# Altium integrated library Microchip Power Mgt Line Regulator.IntLib: 1066 symbols (part 8 of 26)
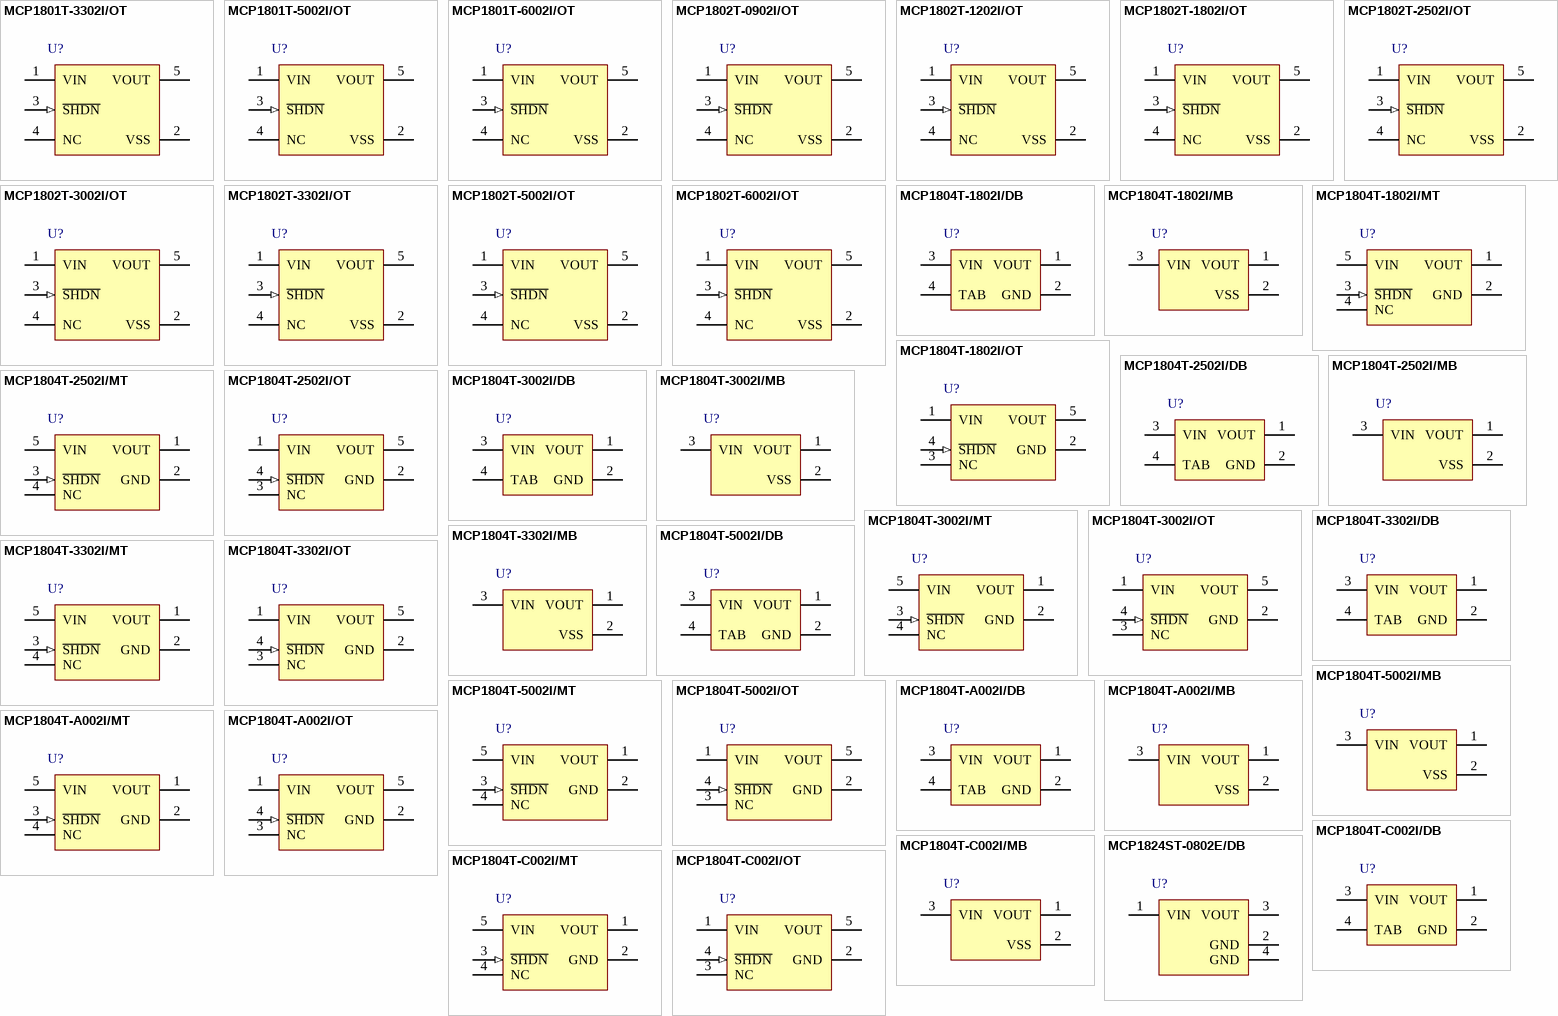
[diagram p33: symbols MCP1801T-3302I/OT to MCP1824ST-0802E/DB]

## MCP1804T-1802I/OT
designator U?
150 mA, 28V LDO Regulator With Shutdown, 5-Pin SOT-23, Industrial Temperature, Tape and Reel; Published: 2-Dec-2009; DatasheetVersion: revB, Nov-2009; PackageVersion: revBB, Aug-2009; PackageReference: SOT-23-OT5; Publisher: Altium Limited; PackageDescription: 5-Lead Plastic Small Outline Transistor (OT) [SOT-23]; Supplier 1: Digi-Key; Supplier Part Number 1: MCP1804T-1802I/OTTR-ND; Supplier 2: Digi-Key; Supplier Part Number 2: MCP1804T-1802I/OTCT-ND; Supplier 3: Digi-Key; Supplier Part Number 3: MCP1804T-1802I/OTDKR-ND; Supplier 4: Farnell; Supplier Part Number 4: 1825003; Supplier 5: Farnell; Supplier Part Number 5: 1783661; Code_IPC: SOT23-5; ComponentLink1Description: Datasheet; ComponentLink1URL: http://ww1.microchip.com/downloads/en/DeviceDoc/22200b.pdf; ComponentLink2Description: Packaging Specification; ComponentLink2URL: http://www.microchip.com/stellent/groups/techpub_sg/documents/packagingspec/en012702.pdf; ComponentLink3Description: Microchip.com Home; ComponentLink3URL: http://www.microchip.com/
footprint SOT-23-OT5_N (SOT23, 5-Leads, Body 2.9x1.6mm, Pitch 0.95mm, Lead Span 2.7mm, IPC Medium Density)
footprint SOT-23-OT5_L (SOT23, 5-Leads, Body 2.9x1.6mm, Pitch 0.95mm, Lead Span 2.7mm, IPC High Density)
footprint SOT-23-OT5_M (SOT23, 5-Leads, Body 2.9x1.6mm, Pitch 0.95mm, Lead Span 2.7mm, IPC Low Density)
pins: 1 VIN (power), 2 GND (power), 3 NC, 4 ~{SHDN} (in), 5 VOUT (power)

## MCP1804T-2502I/DB
designator U?
150 mA, 28V LDO Regulator With Shutdown, 3-Pin SOT-223, Industrial Temperature, Tape and Reel; Published: 2-Dec-2009; DatasheetVersion: revB, Nov-2009; PackageVersion: revBB, Aug-2009; PackageReference: SOT-223-DB3; Publisher: Altium Limited; PackageDescription: 3-Lead Plastic Small Outline Transistor (DB) [SOT-223]; Supplier 1: Digi-Key; Supplier Part Number 1: MCP1804T-2502I/DBTR-ND; Supplier 2: Digi-Key; Supplier Part Number 2: MCP1804T-2502I/DBCT-ND; Supplier 3: Digi-Key; Supplier Part Number 3: MCP1804T-2502I/DBDKR-ND; ComponentLink1Description: Datasheet; ComponentLink1URL: http://ww1.microchip.com/downloads/en/DeviceDoc/22200b.pdf; ComponentLink2Description: Packaging Specification; ComponentLink2URL: http://www.microchip.com/stellent/groups/techpub_sg/documents/packagingspec/en012702.pdf; ComponentLink3Description: Microchip.com Home; ComponentLink3URL: http://www.microchip.com/
footprint SOT-223-DB3_N (SOT223, 4-Leads, Body 6.5x3.5mm, Pitch 2.3mm, Lead Span 7mm, IPC Medium Density)
footprint SOT-223-DB3_L (SOT223, 4-Leads, Body 6.5x3.5mm, Pitch 2.3mm, Lead Span 7mm, IPC High Density)
footprint SOT-223-DB3_M (SOT223, 4-Leads, Body 6.5x3.5mm, Pitch 2.3mm, Lead Span 7mm, IPC Low Density)
pins: 1 VOUT (power), 2 GND (power), 3 VIN (power), 4 TAB (power)

## MCP1804T-2502I/MB
designator U?
150 mA, 28V LDO Regulator With Shutdown, 3-Pin SOT-89, Industrial Temperature, Tape and Reel; Published: 2-Dec-2009; DatasheetVersion: revB, Nov-2009; PackageVersion: revBB, Aug-2009; PackageReference: SOT-89-MB3; Publisher: Altium Limited; PackageDescription: 3-Lead Plastic Small Outline Transistor Header (MB) [SOT-89]; Supplier 1: Digi-Key; Supplier Part Number 1: MCP1804T-2502I/MBTR-ND; Supplier 2: Digi-Key; Supplier Part Number 2: MCP1804T-2502I/MBCT-ND; Supplier 3: Digi-Key; Supplier Part Number 3: MCP1804T-2502I/MBDKR-ND; Code_IPC: SOT89; ComponentLink1Description: Datasheet; ComponentLink1URL: http://ww1.microchip.com/downloads/en/DeviceDoc/22200b.pdf; ComponentLink2Description: Packaging Specification; ComponentLink2URL: http://www.microchip.com/stellent/groups/techpub_sg/documents/packagingspec/en012702.pdf; ComponentLink3Description: Microchip.com Home; ComponentLink3URL: http://www.microchip.com/
footprint SOT-89-MB3_N (SOT89, 3-Leads, Body 4.5x2.4 mm, Pitch 1.5mm, Lead Span 4.1mm, IPC Medium Density)
footprint SOT-89-MB3_L (SOT89, 3-Leads, Body 4.5x2.4 mm, Pitch 1.5mm, Lead Span 4.1mm, IPC High Density)
footprint SOT-89-MB3_M (SOT89, 3-Leads, Body 4.5x2.4 mm, Pitch 1.5mm, Lead Span 4.1mm, IPC Low Density)
pins: 1 VOUT (power), 2 VSS (power), 3 VIN (power)

## MCP1804T-2502I/MT
designator U?
150 mA, 28V LDO Regulator With Shutdown, 5-Pin SOT-89, Industrial Temperature, Tape and Reel; Published: 2-Dec-2009; DatasheetVersion: revB, Nov-2009; PackageVersion: revBB, Aug-2009; PackageReference: SOT-89-MT5; Publisher: Altium Limited; PackageDescription: 5-Lead Plastic Small Outline Transistor Header (MT) [SOT-89]; Supplier 1: Digi-Key; Supplier Part Number 1: MCP1804T-2502I/MTTR-ND; Supplier 2: Digi-Key; Supplier Part Number 2: MCP1804T-2502I/MTCT-ND; Supplier 3: Digi-Key; Supplier Part Number 3: MCP1804T-2502I/MTDKR-ND; ComponentLink1Description: Datasheet; ComponentLink1URL: http://ww1.microchip.com/downloads/en/DeviceDoc/22200b.pdf; ComponentLink2Description: Packaging Specification; ComponentLink2URL: http://www.microchip.com/stellent/groups/techpub_sg/documents/packagingspec/en012702.pdf; ComponentLink3Description: Microchip.com Home; ComponentLink3URL: http://www.microchip.com/
footprint SOT-89-MT5_N (SOT89, 5-Leads, Body 4.5x2.4 mm, Pitch 1.5mm, Lead Span 4.2mm, IPC Medium Density)
footprint SOT-89-MT5_L (SOT89, 5-Leads, Body 4.5x2.4 mm, Pitch 1.5mm, Lead Span 4.2mm, IPC High Density)
footprint SOT-89-MT5_M (SOT89, 5-Leads, Body 4.5x2.4 mm, Pitch 1.5mm, Lead Span 4.2mm, IPC Low Density)
pins: 1 VOUT (power), 2 GND (power), 3 ~{SHDN} (in), 4 NC, 5 VIN (power)

## MCP1804T-2502I/OT
designator U?
150 mA, 28V LDO Regulator With Shutdown, 5-Pin SOT-23, Industrial Temperature, Tape and Reel; Published: 2-Dec-2009; DatasheetVersion: revB, Nov-2009; PackageVersion: revBB, Aug-2009; PackageReference: SOT-23-OT5; Publisher: Altium Limited; PackageDescription: 5-Lead Plastic Small Outline Transistor (OT) [SOT-23]; Supplier 1: Digi-Key; Supplier Part Number 1: MCP1804T-2502I/OTTR-ND; Supplier 2: Digi-Key; Supplier Part Number 2: MCP1804T-2502I/OTCT-ND; Supplier 3: Digi-Key; Supplier Part Number 3: MCP1804T-2502I/OTDKR-ND; Supplier 4: Farnell; Supplier Part Number 4: 1825004; Supplier 5: Farnell; Supplier Part Number 5: 1783662; Code_IPC: SOT23-5; ComponentLink1Description: Datasheet; ComponentLink1URL: http://ww1.microchip.com/downloads/en/DeviceDoc/22200b.pdf; ComponentLink2Description: Packaging Specification; ComponentLink2URL: http://www.microchip.com/stellent/groups/techpub_sg/documents/packagingspec/en012702.pdf; ComponentLink3Description: Microchip.com Home; ComponentLink3URL: http://www.microchip.com/
footprint SOT-23-OT5_N (SOT23, 5-Leads, Body 2.9x1.6mm, Pitch 0.95mm, Lead Span 2.7mm, IPC Medium Density)
footprint SOT-23-OT5_L (SOT23, 5-Leads, Body 2.9x1.6mm, Pitch 0.95mm, Lead Span 2.7mm, IPC High Density)
footprint SOT-23-OT5_M (SOT23, 5-Leads, Body 2.9x1.6mm, Pitch 0.95mm, Lead Span 2.7mm, IPC Low Density)
pins: 1 VIN (power), 2 GND (power), 3 NC, 4 ~{SHDN} (in), 5 VOUT (power)

## MCP1804T-3002I/DB
designator U?
150 mA, 28V LDO Regulator With Shutdown, 3-Pin SOT-223, Industrial Temperature, Tape and Reel; Published: 2-Dec-2009; DatasheetVersion: revB, Nov-2009; PackageVersion: revBB, Aug-2009; PackageReference: SOT-223-DB3; Publisher: Altium Limited; PackageDescription: 3-Lead Plastic Small Outline Transistor (DB) [SOT-223]; Supplier 1: Digi-Key; Supplier Part Number 1: MCP1804T-3002I/DBTR-ND; Supplier 2: Digi-Key; Supplier Part Number 2: MCP1804T-3002I/DBCT-ND; Supplier 3: Digi-Key; Supplier Part Number 3: MCP1804T-3002I/DBDKR-ND; ComponentLink1Description: Datasheet; ComponentLink1URL: http://ww1.microchip.com/downloads/en/DeviceDoc/22200b.pdf; ComponentLink2Description: Packaging Specification; ComponentLink2URL: http://www.microchip.com/stellent/groups/techpub_sg/documents/packagingspec/en012702.pdf; ComponentLink3Description: Microchip.com Home; ComponentLink3URL: http://www.microchip.com/
footprint SOT-223-DB3_N (SOT223, 4-Leads, Body 6.5x3.5mm, Pitch 2.3mm, Lead Span 7mm, IPC Medium Density)
footprint SOT-223-DB3_L (SOT223, 4-Leads, Body 6.5x3.5mm, Pitch 2.3mm, Lead Span 7mm, IPC High Density)
footprint SOT-223-DB3_M (SOT223, 4-Leads, Body 6.5x3.5mm, Pitch 2.3mm, Lead Span 7mm, IPC Low Density)
pins: 1 VOUT (power), 2 GND (power), 3 VIN (power), 4 TAB (power)

## MCP1804T-3002I/MB
designator U?
150 mA, 28V LDO Regulator With Shutdown, 3-Pin SOT-89, Industrial Temperature, Tape and Reel; Published: 2-Dec-2009; DatasheetVersion: revB, Nov-2009; PackageVersion: revBB, Aug-2009; PackageReference: SOT-89-MB3; Publisher: Altium Limited; PackageDescription: 3-Lead Plastic Small Outline Transistor Header (MB) [SOT-89]; Supplier 1: Digi-Key; Supplier Part Number 1: MCP1804T-3002I/MBTR-ND; Supplier 2: Digi-Key; Supplier Part Number 2: MCP1804T-3002I/MBCT-ND; Supplier 3: Digi-Key; Supplier Part Number 3: MCP1804T-3002I/MBDKR-ND; Code_IPC: SOT89; ComponentLink1Description: Datasheet; ComponentLink1URL: http://ww1.microchip.com/downloads/en/DeviceDoc/22200b.pdf; ComponentLink2Description: Packaging Specification; ComponentLink2URL: http://www.microchip.com/stellent/groups/techpub_sg/documents/packagingspec/en012702.pdf; ComponentLink3Description: Microchip.com Home; ComponentLink3URL: http://www.microchip.com/
footprint SOT-89-MB3_N (SOT89, 3-Leads, Body 4.5x2.4 mm, Pitch 1.5mm, Lead Span 4.1mm, IPC Medium Density)
footprint SOT-89-MB3_L (SOT89, 3-Leads, Body 4.5x2.4 mm, Pitch 1.5mm, Lead Span 4.1mm, IPC High Density)
footprint SOT-89-MB3_M (SOT89, 3-Leads, Body 4.5x2.4 mm, Pitch 1.5mm, Lead Span 4.1mm, IPC Low Density)
pins: 1 VOUT (power), 2 VSS (power), 3 VIN (power)

## MCP1804T-3002I/MT
designator U?
150 mA, 28V LDO Regulator With Shutdown, 5-Pin SOT-89, Industrial Temperature, Tape and Reel; Published: 2-Dec-2009; DatasheetVersion: revB, Nov-2009; PackageVersion: revBB, Aug-2009; PackageReference: SOT-89-MT5; Publisher: Altium Limited; PackageDescription: 5-Lead Plastic Small Outline Transistor Header (MT) [SOT-89]; Supplier 1: Digi-Key; Supplier Part Number 1: MCP1804T-3002I/MTTR-ND; Supplier 2: Digi-Key; Supplier Part Number 2: MCP1804T-3002I/MTCT-ND; Supplier 3: Digi-Key; Supplier Part Number 3: MCP1804T-3002I/MTDKR-ND; ComponentLink1Description: Datasheet; ComponentLink1URL: http://ww1.microchip.com/downloads/en/DeviceDoc/22200b.pdf; ComponentLink2Description: Packaging Specification; ComponentLink2URL: http://www.microchip.com/stellent/groups/techpub_sg/documents/packagingspec/en012702.pdf; ComponentLink3Description: Microchip.com Home; ComponentLink3URL: http://www.microchip.com/
footprint SOT-89-MT5_N (SOT89, 5-Leads, Body 4.5x2.4 mm, Pitch 1.5mm, Lead Span 4.2mm, IPC Medium Density)
footprint SOT-89-MT5_L (SOT89, 5-Leads, Body 4.5x2.4 mm, Pitch 1.5mm, Lead Span 4.2mm, IPC High Density)
footprint SOT-89-MT5_M (SOT89, 5-Leads, Body 4.5x2.4 mm, Pitch 1.5mm, Lead Span 4.2mm, IPC Low Density)
pins: 1 VOUT (power), 2 GND (power), 3 ~{SHDN} (in), 4 NC, 5 VIN (power)

## MCP1804T-3002I/OT
designator U?
150 mA, 28V LDO Regulator With Shutdown, 5-Pin SOT-23, Industrial Temperature, Tape and Reel; Published: 2-Dec-2009; DatasheetVersion: revB, Nov-2009; PackageVersion: revBB, Aug-2009; PackageReference: SOT-23-OT5; Publisher: Altium Limited; PackageDescription: 5-Lead Plastic Small Outline Transistor (OT) [SOT-23]; Supplier 1: Digi-Key; Supplier Part Number 1: MCP1804T-3002I/OTTR-ND; Supplier 2: Digi-Key; Supplier Part Number 2: MCP1804T-3002I/OTCT-ND; Supplier 3: Digi-Key; Supplier Part Number 3: MCP1804T-3002I/OTDKR-ND; Supplier 4: Farnell; Supplier Part Number 4: 1825005; Supplier 5: Farnell; Supplier Part Number 5: 1783663; Code_IPC: SOT23-5; ComponentLink1Description: Datasheet; ComponentLink1URL: http://ww1.microchip.com/downloads/en/DeviceDoc/22200b.pdf; ComponentLink2Description: Packaging Specification; ComponentLink2URL: http://www.microchip.com/stellent/groups/techpub_sg/documents/packagingspec/en012702.pdf; ComponentLink3Description: Microchip.com Home; ComponentLink3URL: http://www.microchip.com/
footprint SOT-23-OT5_N (SOT23, 5-Leads, Body 2.9x1.6mm, Pitch 0.95mm, Lead Span 2.7mm, IPC Medium Density)
footprint SOT-23-OT5_L (SOT23, 5-Leads, Body 2.9x1.6mm, Pitch 0.95mm, Lead Span 2.7mm, IPC High Density)
footprint SOT-23-OT5_M (SOT23, 5-Leads, Body 2.9x1.6mm, Pitch 0.95mm, Lead Span 2.7mm, IPC Low Density)
pins: 1 VIN (power), 2 GND (power), 3 NC, 4 ~{SHDN} (in), 5 VOUT (power)

## MCP1804T-3302I/DB
designator U?
150 mA, 28V LDO Regulator With Shutdown, 3-Pin SOT-223, Industrial Temperature, Tape and Reel; Published: 2-Dec-2009; DatasheetVersion: revB, Nov-2009; PackageVersion: revBB, Aug-2009; PackageReference: SOT-223-DB3; Publisher: Altium Limited; PackageDescription: 3-Lead Plastic Small Outline Transistor (DB) [SOT-223]; Supplier 1: Digi-Key; Supplier Part Number 1: MCP1804T-3302I/DBTR-ND; Supplier 2: Digi-Key; Supplier Part Number 2: MCP1804T-3302I/DBCT-ND; Supplier 3: Digi-Key; Supplier Part Number 3: MCP1804T-3302I/DBDKR-ND; ComponentLink1Description: Datasheet; ComponentLink1URL: http://ww1.microchip.com/downloads/en/DeviceDoc/22200b.pdf; ComponentLink2Description: Packaging Specification; ComponentLink2URL: http://www.microchip.com/stellent/groups/techpub_sg/documents/packagingspec/en012702.pdf; ComponentLink3Description: Microchip.com Home; ComponentLink3URL: http://www.microchip.com/
footprint SOT-223-DB3_N (SOT223, 4-Leads, Body 6.5x3.5mm, Pitch 2.3mm, Lead Span 7mm, IPC Medium Density)
footprint SOT-223-DB3_L (SOT223, 4-Leads, Body 6.5x3.5mm, Pitch 2.3mm, Lead Span 7mm, IPC High Density)
footprint SOT-223-DB3_M (SOT223, 4-Leads, Body 6.5x3.5mm, Pitch 2.3mm, Lead Span 7mm, IPC Low Density)
pins: 1 VOUT (power), 2 GND (power), 3 VIN (power), 4 TAB (power)

## MCP1804T-3302I/MB
designator U?
150 mA, 28V LDO Regulator With Shutdown, 3-Pin SOT-89, Industrial Temperature, Tape and Reel; Published: 2-Dec-2009; DatasheetVersion: revB, Nov-2009; PackageVersion: revBB, Aug-2009; PackageReference: SOT-89-MB3; Publisher: Altium Limited; PackageDescription: 3-Lead Plastic Small Outline Transistor Header (MB) [SOT-89]; Supplier 1: Digi-Key; Supplier Part Number 1: MCP1804T-3302I/MBTR-ND; Supplier 2: Digi-Key; Supplier Part Number 2: MCP1804T-3302I/MBCT-ND; Supplier 3: Digi-Key; Supplier Part Number 3: MCP1804T-3302I/MBDKR-ND; Code_IPC: SOT89; ComponentLink1Description: Datasheet; ComponentLink1URL: http://ww1.microchip.com/downloads/en/DeviceDoc/22200b.pdf; ComponentLink2Description: Packaging Specification; ComponentLink2URL: http://www.microchip.com/stellent/groups/techpub_sg/documents/packagingspec/en012702.pdf; ComponentLink3Description: Microchip.com Home; ComponentLink3URL: http://www.microchip.com/
footprint SOT-89-MB3_N (SOT89, 3-Leads, Body 4.5x2.4 mm, Pitch 1.5mm, Lead Span 4.1mm, IPC Medium Density)
footprint SOT-89-MB3_L (SOT89, 3-Leads, Body 4.5x2.4 mm, Pitch 1.5mm, Lead Span 4.1mm, IPC High Density)
footprint SOT-89-MB3_M (SOT89, 3-Leads, Body 4.5x2.4 mm, Pitch 1.5mm, Lead Span 4.1mm, IPC Low Density)
pins: 1 VOUT (power), 2 VSS (power), 3 VIN (power)

## MCP1804T-3302I/MT
designator U?
150 mA, 28V LDO Regulator With Shutdown, 5-Pin SOT-89, Industrial Temperature, Tape and Reel; Published: 2-Dec-2009; DatasheetVersion: revB, Nov-2009; PackageVersion: revBB, Aug-2009; PackageReference: SOT-89-MT5; Publisher: Altium Limited; PackageDescription: 5-Lead Plastic Small Outline Transistor Header (MT) [SOT-89]; Supplier 1: Digi-Key; Supplier Part Number 1: MCP1804T-3302I/MTTR-ND; Supplier 2: Digi-Key; Supplier Part Number 2: MCP1804T-3302I/MTCT-ND; Supplier 3: Digi-Key; Supplier Part Number 3: MCP1804T-3302I/MTDKR-ND; ComponentLink1Description: Datasheet; ComponentLink1URL: http://ww1.microchip.com/downloads/en/DeviceDoc/22200b.pdf; ComponentLink2Description: Packaging Specification; ComponentLink2URL: http://www.microchip.com/stellent/groups/techpub_sg/documents/packagingspec/en012702.pdf; ComponentLink3Description: Microchip.com Home; ComponentLink3URL: http://www.microchip.com/
footprint SOT-89-MT5_N (SOT89, 5-Leads, Body 4.5x2.4 mm, Pitch 1.5mm, Lead Span 4.2mm, IPC Medium Density)
footprint SOT-89-MT5_L (SOT89, 5-Leads, Body 4.5x2.4 mm, Pitch 1.5mm, Lead Span 4.2mm, IPC High Density)
footprint SOT-89-MT5_M (SOT89, 5-Leads, Body 4.5x2.4 mm, Pitch 1.5mm, Lead Span 4.2mm, IPC Low Density)
pins: 1 VOUT (power), 2 GND (power), 3 ~{SHDN} (in), 4 NC, 5 VIN (power)

## MCP1804T-3302I/OT
designator U?
150 mA, 28V LDO Regulator With Shutdown, 5-Pin SOT-23, Industrial Temperature, Tape and Reel; Published: 2-Dec-2009; DatasheetVersion: revB, Nov-2009; PackageVersion: revBB, Aug-2009; PackageReference: SOT-23-OT5; Publisher: Altium Limited; PackageDescription: 5-Lead Plastic Small Outline Transistor (OT) [SOT-23]; Supplier 1: Digi-Key; Supplier Part Number 1: MCP1804T-3302I/OTTR-ND; Supplier 2: Digi-Key; Supplier Part Number 2: MCP1804T-3302I/OTCT-ND; Supplier 3: Digi-Key; Supplier Part Number 3: MCP1804T-3302I/OTDKR-ND; Supplier 4: Farnell; Supplier Part Number 4: 1783664; Supplier 5: Farnell; Supplier Part Number 5: 1825006; Code_IPC: SOT23-5; ComponentLink1Description: Datasheet; ComponentLink1URL: http://ww1.microchip.com/downloads/en/DeviceDoc/22200b.pdf; ComponentLink2Description: Packaging Specification; ComponentLink2URL: http://www.microchip.com/stellent/groups/techpub_sg/documents/packagingspec/en012702.pdf; ComponentLink3Description: Microchip.com Home; ComponentLink3URL: http://www.microchip.com/
footprint SOT-23-OT5_N (SOT23, 5-Leads, Body 2.9x1.6mm, Pitch 0.95mm, Lead Span 2.7mm, IPC Medium Density)
footprint SOT-23-OT5_L (SOT23, 5-Leads, Body 2.9x1.6mm, Pitch 0.95mm, Lead Span 2.7mm, IPC High Density)
footprint SOT-23-OT5_M (SOT23, 5-Leads, Body 2.9x1.6mm, Pitch 0.95mm, Lead Span 2.7mm, IPC Low Density)
pins: 1 VIN (power), 2 GND (power), 3 NC, 4 ~{SHDN} (in), 5 VOUT (power)

## MCP1804T-5002I/DB
designator U?
150 mA, 28V LDO Regulator With Shutdown, 3-Pin SOT-223, Industrial Temperature, Tape and Reel; Published: 2-Dec-2009; DatasheetVersion: revB, Nov-2009; PackageVersion: revBB, Aug-2009; PackageReference: SOT-223-DB3; Publisher: Altium Limited; PackageDescription: 3-Lead Plastic Small Outline Transistor (DB) [SOT-223]; Supplier 1: Digi-Key; Supplier Part Number 1: MCP1804T-5002I/DBTR-ND; Supplier 2: Digi-Key; Supplier Part Number 2: MCP1804T-5002I/DBCT-ND; Supplier 3: Digi-Key; Supplier Part Number 3: MCP1804T-5002I/DBDKR-ND; ComponentLink1Description: Datasheet; ComponentLink1URL: http://ww1.microchip.com/downloads/en/DeviceDoc/22200b.pdf; ComponentLink2Description: Packaging Specification; ComponentLink2URL: http://www.microchip.com/stellent/groups/techpub_sg/documents/packagingspec/en012702.pdf; ComponentLink3Description: Microchip.com Home; ComponentLink3URL: http://www.microchip.com/
footprint SOT-223-DB3_N (SOT223, 4-Leads, Body 6.5x3.5mm, Pitch 2.3mm, Lead Span 7mm, IPC Medium Density)
footprint SOT-223-DB3_L (SOT223, 4-Leads, Body 6.5x3.5mm, Pitch 2.3mm, Lead Span 7mm, IPC High Density)
footprint SOT-223-DB3_M (SOT223, 4-Leads, Body 6.5x3.5mm, Pitch 2.3mm, Lead Span 7mm, IPC Low Density)
pins: 1 VOUT (power), 2 GND (power), 3 VIN (power), 4 TAB (power)

## MCP1804T-5002I/MB
designator U?
150 mA, 28V LDO Regulator With Shutdown, 3-Pin SOT-89, Industrial Temperature, Tape and Reel; Published: 2-Dec-2009; DatasheetVersion: revB, Nov-2009; PackageVersion: revBB, Aug-2009; PackageReference: SOT-89-MB3; Publisher: Altium Limited; PackageDescription: 3-Lead Plastic Small Outline Transistor Header (MB) [SOT-89]; Supplier 1: Digi-Key; Supplier Part Number 1: MCP1804T-5002I/MBTR-ND; Supplier 2: Digi-Key; Supplier Part Number 2: MCP1804T-5002I/MBCT-ND; Supplier 3: Digi-Key; Supplier Part Number 3: MCP1804T-5002I/MBDKR-ND; Code_IPC: SOT89; ComponentLink1Description: Datasheet; ComponentLink1URL: http://ww1.microchip.com/downloads/en/DeviceDoc/22200b.pdf; ComponentLink2Description: Packaging Specification; ComponentLink2URL: http://www.microchip.com/stellent/groups/techpub_sg/documents/packagingspec/en012702.pdf; ComponentLink3Description: Microchip.com Home; ComponentLink3URL: http://www.microchip.com/
footprint SOT-89-MB3_N (SOT89, 3-Leads, Body 4.5x2.4 mm, Pitch 1.5mm, Lead Span 4.1mm, IPC Medium Density)
footprint SOT-89-MB3_L (SOT89, 3-Leads, Body 4.5x2.4 mm, Pitch 1.5mm, Lead Span 4.1mm, IPC High Density)
footprint SOT-89-MB3_M (SOT89, 3-Leads, Body 4.5x2.4 mm, Pitch 1.5mm, Lead Span 4.1mm, IPC Low Density)
pins: 1 VOUT (power), 2 VSS (power), 3 VIN (power)

## MCP1804T-5002I/MT
designator U?
150 mA, 28V LDO Regulator With Shutdown, 5-Pin SOT-89, Industrial Temperature, Tape and Reel; Published: 2-Dec-2009; DatasheetVersion: revB, Nov-2009; PackageVersion: revBB, Aug-2009; PackageReference: SOT-89-MT5; Publisher: Altium Limited; PackageDescription: 5-Lead Plastic Small Outline Transistor Header (MT) [SOT-89]; Supplier 1: Digi-Key; Supplier Part Number 1: MCP1804T-5002I/MTTR-ND; Supplier 2: Digi-Key; Supplier Part Number 2: MCP1804T-5002I/MTCT-ND; Supplier 3: Digi-Key; Supplier Part Number 3: MCP1804T-5002I/MTDKR-ND; ComponentLink1Description: Datasheet; ComponentLink1URL: http://ww1.microchip.com/downloads/en/DeviceDoc/22200b.pdf; ComponentLink2Description: Packaging Specification; ComponentLink2URL: http://www.microchip.com/stellent/groups/techpub_sg/documents/packagingspec/en012702.pdf; ComponentLink3Description: Microchip.com Home; ComponentLink3URL: http://www.microchip.com/
footprint SOT-89-MT5_N (SOT89, 5-Leads, Body 4.5x2.4 mm, Pitch 1.5mm, Lead Span 4.2mm, IPC Medium Density)
footprint SOT-89-MT5_L (SOT89, 5-Leads, Body 4.5x2.4 mm, Pitch 1.5mm, Lead Span 4.2mm, IPC High Density)
footprint SOT-89-MT5_M (SOT89, 5-Leads, Body 4.5x2.4 mm, Pitch 1.5mm, Lead Span 4.2mm, IPC Low Density)
pins: 1 VOUT (power), 2 GND (power), 3 ~{SHDN} (in), 4 NC, 5 VIN (power)

## MCP1804T-5002I/OT
designator U?
150 mA, 28V LDO Regulator With Shutdown, 5-Pin SOT-23, Industrial Temperature, Tape and Reel; Published: 2-Dec-2009; DatasheetVersion: revB, Nov-2009; PackageVersion: revBB, Aug-2009; PackageReference: SOT-23-OT5; Publisher: Altium Limited; PackageDescription: 5-Lead Plastic Small Outline Transistor (OT) [SOT-23]; Supplier 1: Digi-Key; Supplier Part Number 1: MCP1804T-5002I/OTTR-ND; Supplier 2: Digi-Key; Supplier Part Number 2: MCP1804T-5002I/OTCT-ND; Supplier 3: Digi-Key; Supplier Part Number 3: MCP1804T-5002I/OTDKR-ND; Supplier 4: Farnell; Supplier Part Number 4: 1825007; Supplier 5: Farnell; Supplier Part Number 5: 1783665; Code_IPC: SOT23-5; ComponentLink1Description: Datasheet; ComponentLink1URL: http://ww1.microchip.com/downloads/en/DeviceDoc/22200b.pdf; ComponentLink2Description: Packaging Specification; ComponentLink2URL: http://www.microchip.com/stellent/groups/techpub_sg/documents/packagingspec/en012702.pdf; ComponentLink3Description: Microchip.com Home; ComponentLink3URL: http://www.microchip.com/
footprint SOT-23-OT5_N (SOT23, 5-Leads, Body 2.9x1.6mm, Pitch 0.95mm, Lead Span 2.7mm, IPC Medium Density)
footprint SOT-23-OT5_L (SOT23, 5-Leads, Body 2.9x1.6mm, Pitch 0.95mm, Lead Span 2.7mm, IPC High Density)
footprint SOT-23-OT5_M (SOT23, 5-Leads, Body 2.9x1.6mm, Pitch 0.95mm, Lead Span 2.7mm, IPC Low Density)
pins: 1 VIN (power), 2 GND (power), 3 NC, 4 ~{SHDN} (in), 5 VOUT (power)

## MCP1804T-A002I/DB
designator U?
150 mA, 28V LDO Regulator With Shutdown, 3-Pin SOT-223, Industrial Temperature, Tape and Reel; Published: 2-Dec-2009; DatasheetVersion: revB, Nov-2009; PackageVersion: revBB, Aug-2009; PackageReference: SOT-223-DB3; Publisher: Altium Limited; PackageDescription: 3-Lead Plastic Small Outline Transistor (DB) [SOT-223]; Supplier 1: Digi-Key; Supplier Part Number 1: MCP1804T-A002I/DBTR-ND; Supplier 2: Digi-Key; Supplier Part Number 2: MCP1804T-A002I/DBCT-ND; Supplier 3: Digi-Key; Supplier Part Number 3: MCP1804T-A002I/DBDKR-ND; ComponentLink1Description: Datasheet; ComponentLink1URL: http://ww1.microchip.com/downloads/en/DeviceDoc/22200b.pdf; ComponentLink2Description: Packaging Specification; ComponentLink2URL: http://www.microchip.com/stellent/groups/techpub_sg/documents/packagingspec/en012702.pdf; ComponentLink3Description: Microchip.com Home; ComponentLink3URL: http://www.microchip.com/
footprint SOT-223-DB3_N (SOT223, 4-Leads, Body 6.5x3.5mm, Pitch 2.3mm, Lead Span 7mm, IPC Medium Density)
footprint SOT-223-DB3_L (SOT223, 4-Leads, Body 6.5x3.5mm, Pitch 2.3mm, Lead Span 7mm, IPC High Density)
footprint SOT-223-DB3_M (SOT223, 4-Leads, Body 6.5x3.5mm, Pitch 2.3mm, Lead Span 7mm, IPC Low Density)
pins: 1 VOUT (power), 2 GND (power), 3 VIN (power), 4 TAB (power)

## MCP1804T-A002I/MB
designator U?
150 mA, 28V LDO Regulator With Shutdown, 3-Pin SOT-89, Industrial Temperature, Tape and Reel; Published: 2-Dec-2009; DatasheetVersion: revB, Nov-2009; PackageVersion: revBB, Aug-2009; PackageReference: SOT-89-MB3; Publisher: Altium Limited; PackageDescription: 3-Lead Plastic Small Outline Transistor Header (MB) [SOT-89]; Supplier 1: Digi-Key; Supplier Part Number 1: MCP1804T-A002I/MBTR-ND; Supplier 2: Digi-Key; Supplier Part Number 2: MCP1804T-A002I/MBCT-ND; Supplier 3: Digi-Key; Supplier Part Number 3: MCP1804T-A002I/MBDKR-ND; Code_IPC: SOT89; ComponentLink1Description: Datasheet; ComponentLink1URL: http://ww1.microchip.com/downloads/en/DeviceDoc/22200b.pdf; ComponentLink2Description: Packaging Specification; ComponentLink2URL: http://www.microchip.com/stellent/groups/techpub_sg/documents/packagingspec/en012702.pdf; ComponentLink3Description: Microchip.com Home; ComponentLink3URL: http://www.microchip.com/
footprint SOT-89-MB3_N (SOT89, 3-Leads, Body 4.5x2.4 mm, Pitch 1.5mm, Lead Span 4.1mm, IPC Medium Density)
footprint SOT-89-MB3_L (SOT89, 3-Leads, Body 4.5x2.4 mm, Pitch 1.5mm, Lead Span 4.1mm, IPC High Density)
footprint SOT-89-MB3_M (SOT89, 3-Leads, Body 4.5x2.4 mm, Pitch 1.5mm, Lead Span 4.1mm, IPC Low Density)
pins: 1 VOUT (power), 2 VSS (power), 3 VIN (power)

## MCP1804T-A002I/MT
designator U?
150 mA, 28V LDO Regulator With Shutdown, 5-Pin SOT-89, Industrial Temperature, Tape and Reel; Published: 2-Dec-2009; DatasheetVersion: revB, Nov-2009; PackageVersion: revBB, Aug-2009; PackageReference: SOT-89-MT5; Publisher: Altium Limited; PackageDescription: 5-Lead Plastic Small Outline Transistor Header (MT) [SOT-89]; Supplier 1: Digi-Key; Supplier Part Number 1: MCP1804T-A002I/MTTR-ND; Supplier 2: Digi-Key; Supplier Part Number 2: MCP1804T-A002I/MTCT-ND; Supplier 3: Digi-Key; Supplier Part Number 3: MCP1804T-A002I/MTDKR-ND; ComponentLink1Description: Datasheet; ComponentLink1URL: http://ww1.microchip.com/downloads/en/DeviceDoc/22200b.pdf; ComponentLink2Description: Packaging Specification; ComponentLink2URL: http://www.microchip.com/stellent/groups/techpub_sg/documents/packagingspec/en012702.pdf; ComponentLink3Description: Microchip.com Home; ComponentLink3URL: http://www.microchip.com/
footprint SOT-89-MT5_N (SOT89, 5-Leads, Body 4.5x2.4 mm, Pitch 1.5mm, Lead Span 4.2mm, IPC Medium Density)
footprint SOT-89-MT5_L (SOT89, 5-Leads, Body 4.5x2.4 mm, Pitch 1.5mm, Lead Span 4.2mm, IPC High Density)
footprint SOT-89-MT5_M (SOT89, 5-Leads, Body 4.5x2.4 mm, Pitch 1.5mm, Lead Span 4.2mm, IPC Low Density)
pins: 1 VOUT (power), 2 GND (power), 3 ~{SHDN} (in), 4 NC, 5 VIN (power)

## MCP1804T-A002I/OT
designator U?
150 mA, 28V LDO Regulator With Shutdown, 5-Pin SOT-23, Industrial Temperature, Tape and Reel; Published: 2-Dec-2009; DatasheetVersion: revB, Nov-2009; PackageVersion: revBB, Aug-2009; PackageReference: SOT-23-OT5; Publisher: Altium Limited; PackageDescription: 5-Lead Plastic Small Outline Transistor (OT) [SOT-23]; Supplier 1: Digi-Key; Supplier Part Number 1: MCP1804T-A002I/OTTR-ND; Supplier 2: Digi-Key; Supplier Part Number 2: MCP1804T-A002I/OTCT-ND; Supplier 3: Digi-Key; Supplier Part Number 3: MCP1804T-A002I/OTDKR-ND; Supplier 4: Farnell; Supplier Part Number 4: 1825009; Supplier 5: Farnell; Supplier Part Number 5: 1783657; Code_IPC: SOT23-5; ComponentLink1Description: Datasheet; ComponentLink1URL: http://ww1.microchip.com/downloads/en/DeviceDoc/22200b.pdf; ComponentLink2Description: Packaging Specification; ComponentLink2URL: http://www.microchip.com/stellent/groups/techpub_sg/documents/packagingspec/en012702.pdf; ComponentLink3Description: Microchip.com Home; ComponentLink3URL: http://www.microchip.com/
footprint SOT-23-OT5_N (SOT23, 5-Leads, Body 2.9x1.6mm, Pitch 0.95mm, Lead Span 2.7mm, IPC Medium Density)
footprint SOT-23-OT5_L (SOT23, 5-Leads, Body 2.9x1.6mm, Pitch 0.95mm, Lead Span 2.7mm, IPC High Density)
footprint SOT-23-OT5_M (SOT23, 5-Leads, Body 2.9x1.6mm, Pitch 0.95mm, Lead Span 2.7mm, IPC Low Density)
pins: 1 VIN (power), 2 GND (power), 3 NC, 4 ~{SHDN} (in), 5 VOUT (power)

## MCP1804T-C002I/DB
designator U?
150 mA, 28V LDO Regulator With Shutdown, 3-Pin SOT-223, Industrial Temperature, Tape and Reel; Published: 2-Dec-2009; DatasheetVersion: revB, Nov-2009; PackageVersion: revBB, Aug-2009; PackageReference: SOT-223-DB3; Publisher: Altium Limited; PackageDescription: 3-Lead Plastic Small Outline Transistor (DB) [SOT-223]; Supplier 1: Digi-Key; Supplier Part Number 1: MCP1804T-C002I/DBTR-ND; Supplier 2: Digi-Key; Supplier Part Number 2: MCP1804T-C002I/DBCT-ND; Supplier 3: Digi-Key; Supplier Part Number 3: MCP1804T-C002I/DBDKR-ND; ComponentLink1Description: Datasheet; ComponentLink1URL: http://ww1.microchip.com/downloads/en/DeviceDoc/22200b.pdf; ComponentLink2Description: Packaging Specification; ComponentLink2URL: http://www.microchip.com/stellent/groups/techpub_sg/documents/packagingspec/en012702.pdf; ComponentLink3Description: Microchip.com Home; ComponentLink3URL: http://www.microchip.com/
footprint SOT-223-DB3_N (SOT223, 4-Leads, Body 6.5x3.5mm, Pitch 2.3mm, Lead Span 7mm, IPC Medium Density)
footprint SOT-223-DB3_L (SOT223, 4-Leads, Body 6.5x3.5mm, Pitch 2.3mm, Lead Span 7mm, IPC High Density)
footprint SOT-223-DB3_M (SOT223, 4-Leads, Body 6.5x3.5mm, Pitch 2.3mm, Lead Span 7mm, IPC Low Density)
pins: 1 VOUT (power), 2 GND (power), 3 VIN (power), 4 TAB (power)

## MCP1804T-C002I/MB
designator U?
150 mA, 28V LDO Regulator With Shutdown, 3-Pin SOT-89, Industrial Temperature, Tape and Reel; Published: 2-Dec-2009; DatasheetVersion: revB, Nov-2009; PackageVersion: revBB, Aug-2009; PackageReference: SOT-89-MB3; Publisher: Altium Limited; PackageDescription: 3-Lead Plastic Small Outline Transistor Header (MB) [SOT-89]; Supplier 1: Digi-Key; Supplier Part Number 1: MCP1804T-C002I/MBTR-ND; Supplier 2: Digi-Key; Supplier Part Number 2: MCP1804T-C002I/MBCT-ND; Supplier 3: Digi-Key; Supplier Part Number 3: MCP1804T-C002I/MBDKR-ND; Code_IPC: SOT89; ComponentLink1Description: Datasheet; ComponentLink1URL: http://ww1.microchip.com/downloads/en/DeviceDoc/22200b.pdf; ComponentLink2Description: Packaging Specification; ComponentLink2URL: http://www.microchip.com/stellent/groups/techpub_sg/documents/packagingspec/en012702.pdf; ComponentLink3Description: Microchip.com Home; ComponentLink3URL: http://www.microchip.com/
footprint SOT-89-MB3_N (SOT89, 3-Leads, Body 4.5x2.4 mm, Pitch 1.5mm, Lead Span 4.1mm, IPC Medium Density)
footprint SOT-89-MB3_L (SOT89, 3-Leads, Body 4.5x2.4 mm, Pitch 1.5mm, Lead Span 4.1mm, IPC High Density)
footprint SOT-89-MB3_M (SOT89, 3-Leads, Body 4.5x2.4 mm, Pitch 1.5mm, Lead Span 4.1mm, IPC Low Density)
pins: 1 VOUT (power), 2 VSS (power), 3 VIN (power)

## MCP1804T-C002I/MT
designator U?
150 mA, 28V LDO Regulator With Shutdown, 5-Pin SOT-89, Industrial Temperature, Tape and Reel; Published: 2-Dec-2009; DatasheetVersion: revB, Nov-2009; PackageVersion: revBB, Aug-2009; PackageReference: SOT-89-MT5; Publisher: Altium Limited; PackageDescription: 5-Lead Plastic Small Outline Transistor Header (MT) [SOT-89]; Supplier 1: Digi-Key; Supplier Part Number 1: MCP1804T-C002I/MTTR-ND; Supplier 2: Digi-Key; Supplier Part Number 2: MCP1804T-C002I/MTCT-ND; Supplier 3: Digi-Key; Supplier Part Number 3: MCP1804T-C002I/MTDKR-ND; ComponentLink1Description: Datasheet; ComponentLink1URL: http://ww1.microchip.com/downloads/en/DeviceDoc/22200b.pdf; ComponentLink2Description: Packaging Specification; ComponentLink2URL: http://www.microchip.com/stellent/groups/techpub_sg/documents/packagingspec/en012702.pdf; ComponentLink3Description: Microchip.com Home; ComponentLink3URL: http://www.microchip.com/
footprint SOT-89-MT5_N (SOT89, 5-Leads, Body 4.5x2.4 mm, Pitch 1.5mm, Lead Span 4.2mm, IPC Medium Density)
footprint SOT-89-MT5_L (SOT89, 5-Leads, Body 4.5x2.4 mm, Pitch 1.5mm, Lead Span 4.2mm, IPC High Density)
footprint SOT-89-MT5_M (SOT89, 5-Leads, Body 4.5x2.4 mm, Pitch 1.5mm, Lead Span 4.2mm, IPC Low Density)
pins: 1 VOUT (power), 2 GND (power), 3 ~{SHDN} (in), 4 NC, 5 VIN (power)

## MCP1804T-C002I/OT
designator U?
150 mA, 28V LDO Regulator With Shutdown, 5-Pin SOT-23, Industrial Temperature, Tape and Reel; Published: 2-Dec-2009; DatasheetVersion: revB, Nov-2009; PackageVersion: revBB, Aug-2009; PackageReference: SOT-23-OT5; Publisher: Altium Limited; PackageDescription: 5-Lead Plastic Small Outline Transistor (OT) [SOT-23]; Supplier 1: Digi-Key; Supplier Part Number 1: MCP1804T-C002I/OTTR-ND; Supplier 2: Digi-Key; Supplier Part Number 2: MCP1804T-C002I/OTCT-ND; Supplier 3: Digi-Key; Supplier Part Number 3: MCP1804T-C002I/OTDKR-ND; Supplier 4: Farnell; Supplier Part Number 4: 1825011; Supplier 5: Farnell; Supplier Part Number 5: 1783659; Code_IPC: SOT23-5; ComponentLink1Description: Datasheet; ComponentLink1URL: http://ww1.microchip.com/downloads/en/DeviceDoc/22200b.pdf; ComponentLink2Description: Packaging Specification; ComponentLink2URL: http://www.microchip.com/stellent/groups/techpub_sg/documents/packagingspec/en012702.pdf; ComponentLink3Description: Microchip.com Home; ComponentLink3URL: http://www.microchip.com/
footprint SOT-23-OT5_N (SOT23, 5-Leads, Body 2.9x1.6mm, Pitch 0.95mm, Lead Span 2.7mm, IPC Medium Density)
footprint SOT-23-OT5_L (SOT23, 5-Leads, Body 2.9x1.6mm, Pitch 0.95mm, Lead Span 2.7mm, IPC High Density)
footprint SOT-23-OT5_M (SOT23, 5-Leads, Body 2.9x1.6mm, Pitch 0.95mm, Lead Span 2.7mm, IPC Low Density)
pins: 1 VIN (power), 2 GND (power), 3 NC, 4 ~{SHDN} (in), 5 VOUT (power)

## MCP1824ST-0802E/DB
designator U?
300 mA, Low Voltage, Low Quiescent Current LDO Regulator, 3-Pin SOT-223, Extended Temperature, Tape and Reel; Published: 29-Jan-2009; DatasheetVersion: revA, Aug-2007; PackageVersion: revBB, Aug-2009; PackageReference: SOT-223-DB3; Publisher: Altium Limited; PackageDescription: 3-Lead Plastic Small Outline Transistor (DB) [SOT-223]; Supplier 1: Digi-Key; Supplier Part Number 1: MCP1824ST-0802E/DBTR-ND; Supplier 2: Digi-Key; Supplier Part Number 2: MCP1824ST-0802E/DBCT-ND; Supplier 3: Digi-Key; Supplier Part Number 3: MCP1824ST-0802E/DBDKR-ND; Supplier 4: Farnell; Supplier Part Number 4: 1578374; ComponentLink1Description: Datasheet; ComponentLink1URL: http://ww1.microchip.com/downloads/en/DeviceDoc/22070a.pdf; ComponentLink2Description: Packaging Specification; ComponentLink2URL: http://www.microchip.com/stellent/groups/techpub_sg/documents/packagingspec/en012702.pdf; ComponentLink3Description: Microchip.com Home; ComponentLink3URL: http://www.microchip.com/
footprint SOT-223-DB3_N (SOT223, 4-Leads, Body 6.5x3.5mm, Pitch 2.3mm, Lead Span 7mm, IPC Medium Density)
footprint SOT-223-DB3_L (SOT223, 4-Leads, Body 6.5x3.5mm, Pitch 2.3mm, Lead Span 7mm, IPC High Density)
footprint SOT-223-DB3_M (SOT223, 4-Leads, Body 6.5x3.5mm, Pitch 2.3mm, Lead Span 7mm, IPC Low Density)
pins: 1 VIN (power), 2 GND (power), 3 VOUT (power), 4 GND (power)

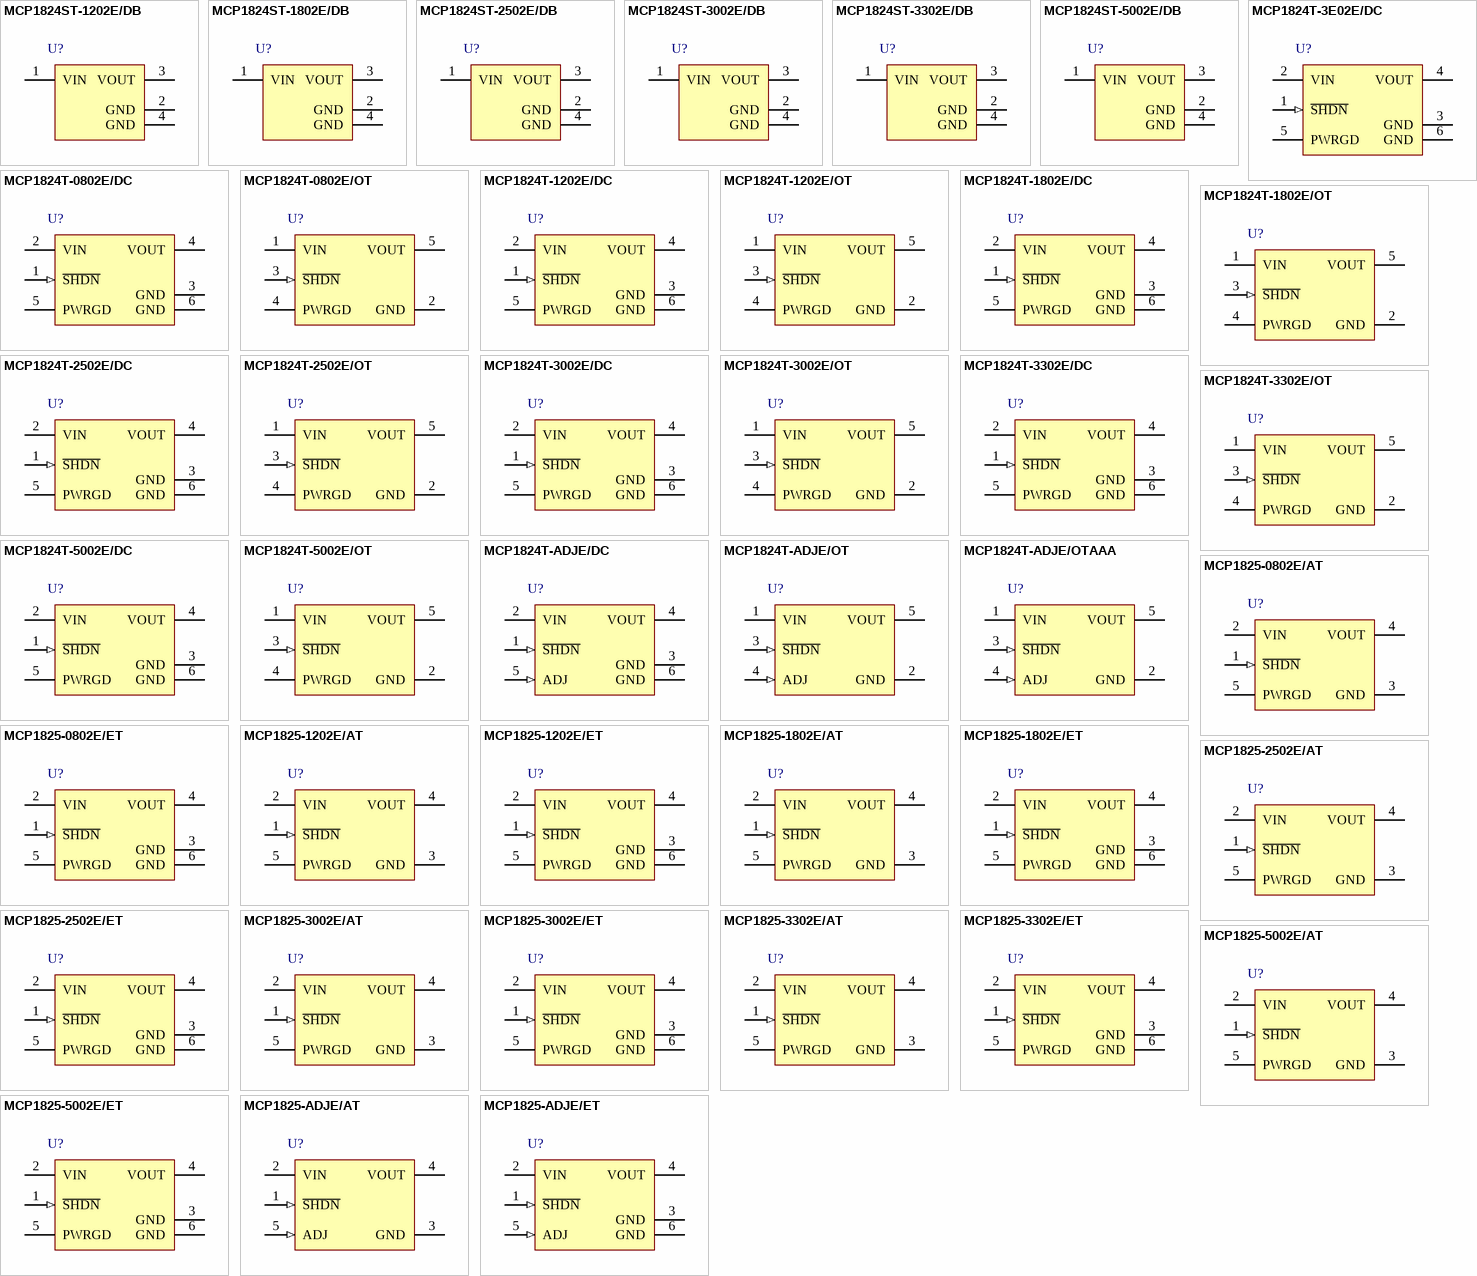
[diagram p8: symbols MCP1824ST-1202E/DB to MCP1825-ADJE/ET]

## MCP1824ST-1202E/DB
designator U?
300 mA, Low Voltage, Low Quiescent Current LDO Regulator, 3-Pin SOT-223, Extended Temperature, Tape and Reel; Published: 29-Jan-2009; DatasheetVersion: revA, Aug-2007; PackageVersion: revBB, Aug-2009; PackageReference: SOT-223-DB3; Publisher: Altium Limited; PackageDescription: 3-Lead Plastic Small Outline Transistor (DB) [SOT-223]; Supplier 1: Digi-Key; Supplier Part Number 1: MCP1824ST-1202E/DBTR-ND; Supplier 2: Digi-Key; Supplier Part Number 2: MCP1824ST-1202E/DBCT-ND; Supplier 3: Digi-Key; Supplier Part Number 3: MCP1824ST-1202E/DBDKR-ND; Supplier 4: Farnell; Supplier Part Number 4: 1675417; ComponentLink1Description: Datasheet; ComponentLink1URL: http://ww1.microchip.com/downloads/en/DeviceDoc/22070a.pdf; ComponentLink2Description: Packaging Specification; ComponentLink2URL: http://www.microchip.com/stellent/groups/techpub_sg/documents/packagingspec/en012702.pdf; ComponentLink3Description: Microchip.com Home; ComponentLink3URL: http://www.microchip.com/
footprint SOT-223-DB3_N (SOT223, 4-Leads, Body 6.5x3.5mm, Pitch 2.3mm, Lead Span 7mm, IPC Medium Density)
footprint SOT-223-DB3_L (SOT223, 4-Leads, Body 6.5x3.5mm, Pitch 2.3mm, Lead Span 7mm, IPC High Density)
footprint SOT-223-DB3_M (SOT223, 4-Leads, Body 6.5x3.5mm, Pitch 2.3mm, Lead Span 7mm, IPC Low Density)
pins: 1 VIN (power), 2 GND (power), 3 VOUT (power), 4 GND (power)

## MCP1824ST-1802E/DB
designator U?
300 mA, Low Voltage, Low Quiescent Current LDO Regulator, 3-Pin SOT-223, Extended Temperature, Tape and Reel; Published: 29-Jan-2009; DatasheetVersion: revA, Aug-2007; PackageVersion: revBB, Aug-2009; PackageReference: SOT-223-DB3; Publisher: Altium Limited; PackageDescription: 3-Lead Plastic Small Outline Transistor (DB) [SOT-223]; Supplier 1: Digi-Key; Supplier Part Number 1: MCP1824ST-1802E/DBTR-ND; Supplier 2: Digi-Key; Supplier Part Number 2: MCP1824ST-1802E/DBCT-ND; Supplier 3: Digi-Key; Supplier Part Number 3: MCP1824ST-1802E/DBDKR-ND; Supplier 4: Farnell; Supplier Part Number 4: 1578375; ComponentLink1Description: Datasheet; ComponentLink1URL: http://ww1.microchip.com/downloads/en/DeviceDoc/22070a.pdf; ComponentLink2Description: Packaging Specification; ComponentLink2URL: http://www.microchip.com/stellent/groups/techpub_sg/documents/packagingspec/en012702.pdf; ComponentLink3Description: Microchip.com Home; ComponentLink3URL: http://www.microchip.com/
footprint SOT-223-DB3_N (SOT223, 4-Leads, Body 6.5x3.5mm, Pitch 2.3mm, Lead Span 7mm, IPC Medium Density)
footprint SOT-223-DB3_L (SOT223, 4-Leads, Body 6.5x3.5mm, Pitch 2.3mm, Lead Span 7mm, IPC High Density)
footprint SOT-223-DB3_M (SOT223, 4-Leads, Body 6.5x3.5mm, Pitch 2.3mm, Lead Span 7mm, IPC Low Density)
pins: 1 VIN (power), 2 GND (power), 3 VOUT (power), 4 GND (power)

## MCP1824ST-2502E/DB
designator U?
300 mA, Low Voltage, Low Quiescent Current LDO Regulator, 3-Pin SOT-223, Extended Temperature, Tape and Reel; Published: 29-Jan-2009; DatasheetVersion: revA, Aug-2007; PackageVersion: revBB, Aug-2009; PackageReference: SOT-223-DB3; Publisher: Altium Limited; PackageDescription: 3-Lead Plastic Small Outline Transistor (DB) [SOT-223]; Supplier 1: Digi-Key; Supplier Part Number 1: MCP1824ST-2502E/DBTR-ND; Supplier 2: Digi-Key; Supplier Part Number 2: MCP1824ST-2502E/DBCT-ND; Supplier 3: Digi-Key; Supplier Part Number 3: MCP1824ST-2502E/DBDKR-ND; Supplier 4: Farnell; Supplier Part Number 4: 1578377; ComponentLink1Description: Datasheet; ComponentLink1URL: http://ww1.microchip.com/downloads/en/DeviceDoc/22070a.pdf; ComponentLink2Description: Packaging Specification; ComponentLink2URL: http://www.microchip.com/stellent/groups/techpub_sg/documents/packagingspec/en012702.pdf; ComponentLink3Description: Microchip.com Home; ComponentLink3URL: http://www.microchip.com/
footprint SOT-223-DB3_N (SOT223, 4-Leads, Body 6.5x3.5mm, Pitch 2.3mm, Lead Span 7mm, IPC Medium Density)
footprint SOT-223-DB3_L (SOT223, 4-Leads, Body 6.5x3.5mm, Pitch 2.3mm, Lead Span 7mm, IPC High Density)
footprint SOT-223-DB3_M (SOT223, 4-Leads, Body 6.5x3.5mm, Pitch 2.3mm, Lead Span 7mm, IPC Low Density)
pins: 1 VIN (power), 2 GND (power), 3 VOUT (power), 4 GND (power)

## MCP1824ST-3002E/DB
designator U?
300 mA, Low Voltage, Low Quiescent Current LDO Regulator, 3-Pin SOT-223, Extended Temperature, Tape and Reel; Published: 29-Jan-2009; DatasheetVersion: revA, Aug-2007; PackageVersion: revBB, Aug-2009; PackageReference: SOT-223-DB3; Publisher: Altium Limited; PackageDescription: 3-Lead Plastic Small Outline Transistor (DB) [SOT-223]; Supplier 1: Digi-Key; Supplier Part Number 1: MCP1824ST-3002E/DBTR-ND; Supplier 2: Digi-Key; Supplier Part Number 2: MCP1824ST-3002E/DBCT-ND; Supplier 3: Digi-Key; Supplier Part Number 3: MCP1824ST-3002E/DBDKR-ND; Supplier 4: Farnell; Supplier Part Number 4: 1578378; ComponentLink1Description: Datasheet; ComponentLink1URL: http://ww1.microchip.com/downloads/en/DeviceDoc/22070a.pdf; ComponentLink2Description: Packaging Specification; ComponentLink2URL: http://www.microchip.com/stellent/groups/techpub_sg/documents/packagingspec/en012702.pdf; ComponentLink3Description: Microchip.com Home; ComponentLink3URL: http://www.microchip.com/
footprint SOT-223-DB3_N (SOT223, 4-Leads, Body 6.5x3.5mm, Pitch 2.3mm, Lead Span 7mm, IPC Medium Density)
footprint SOT-223-DB3_L (SOT223, 4-Leads, Body 6.5x3.5mm, Pitch 2.3mm, Lead Span 7mm, IPC High Density)
footprint SOT-223-DB3_M (SOT223, 4-Leads, Body 6.5x3.5mm, Pitch 2.3mm, Lead Span 7mm, IPC Low Density)
pins: 1 VIN (power), 2 GND (power), 3 VOUT (power), 4 GND (power)

## MCP1824ST-3302E/DB
designator U?
300 mA, Low Voltage, Low Quiescent Current LDO Regulator, 3-Pin SOT-223, Extended Temperature, Tape and Reel; Published: 29-Jan-2009; DatasheetVersion: revA, Aug-2007; PackageVersion: revBB, Aug-2009; PackageReference: SOT-223-DB3; Publisher: Altium Limited; PackageDescription: 3-Lead Plastic Small Outline Transistor (DB) [SOT-223]; Supplier 1: Digi-Key; Supplier Part Number 1: MCP1824ST-3302E/DBTR-ND; Supplier 2: Digi-Key; Supplier Part Number 2: MCP1824ST-3302E/DBCT-ND; Supplier 3: Digi-Key; Supplier Part Number 3: MCP1824ST-3302E/DBDKR-ND; Supplier 4: Farnell; Supplier Part Number 4: 1578379; ComponentLink1Description: Datasheet; ComponentLink1URL: http://ww1.microchip.com/downloads/en/DeviceDoc/22070a.pdf; ComponentLink2Description: Packaging Specification; ComponentLink2URL: http://www.microchip.com/stellent/groups/techpub_sg/documents/packagingspec/en012702.pdf; ComponentLink3Description: Microchip.com Home; ComponentLink3URL: http://www.microchip.com/
footprint SOT-223-DB3_N (SOT223, 4-Leads, Body 6.5x3.5mm, Pitch 2.3mm, Lead Span 7mm, IPC Medium Density)
footprint SOT-223-DB3_L (SOT223, 4-Leads, Body 6.5x3.5mm, Pitch 2.3mm, Lead Span 7mm, IPC High Density)
footprint SOT-223-DB3_M (SOT223, 4-Leads, Body 6.5x3.5mm, Pitch 2.3mm, Lead Span 7mm, IPC Low Density)
pins: 1 VIN (power), 2 GND (power), 3 VOUT (power), 4 GND (power)

## MCP1824ST-5002E/DB
designator U?
300 mA, Low Voltage, Low Quiescent Current LDO Regulator, 3-Pin SOT-223, Extended Temperature, Tape and Reel; Published: 29-Jan-2009; DatasheetVersion: revA, Aug-2007; PackageVersion: revBB, Aug-2009; PackageReference: SOT-223-DB3; Publisher: Altium Limited; PackageDescription: 3-Lead Plastic Small Outline Transistor (DB) [SOT-223]; Supplier 1: Digi-Key; Supplier Part Number 1: MCP1824ST-5002E/DBTR-ND; Supplier 2: Digi-Key; Supplier Part Number 2: MCP1824ST-5002E/DBCT-ND; Supplier 3: Digi-Key; Supplier Part Number 3: MCP1824ST-5002E/DBDKR-ND; Supplier 4: Farnell; Supplier Part Number 4: 1578380; ComponentLink1Description: Datasheet; ComponentLink1URL: http://ww1.microchip.com/downloads/en/DeviceDoc/22070a.pdf; ComponentLink2Description: Packaging Specification; ComponentLink2URL: http://www.microchip.com/stellent/groups/techpub_sg/documents/packagingspec/en012702.pdf; ComponentLink3Description: Microchip.com Home; ComponentLink3URL: http://www.microchip.com/
footprint SOT-223-DB3_N (SOT223, 4-Leads, Body 6.5x3.5mm, Pitch 2.3mm, Lead Span 7mm, IPC Medium Density)
footprint SOT-223-DB3_L (SOT223, 4-Leads, Body 6.5x3.5mm, Pitch 2.3mm, Lead Span 7mm, IPC High Density)
footprint SOT-223-DB3_M (SOT223, 4-Leads, Body 6.5x3.5mm, Pitch 2.3mm, Lead Span 7mm, IPC Low Density)
pins: 1 VIN (power), 2 GND (power), 3 VOUT (power), 4 GND (power)

## MCP1824T-3E02E/DC
designator U?
300 mA, Low Voltage, Low Quiescent Current LDO Regulator, 5-Pin SOT-223, Extended Temperature, Tape and Reel; Published: 2-Dec-2009; DatasheetVersion: revA, Aug-2007; PackageVersion: revBB, Aug-2009; PackageReference: SOT-223-DC5; Publisher: Altium Limited; PackageDescription: 5-Lead Plastic Small Outline Transistor (DC) [SOT-223]; ComponentLink1Description: Datasheet; ComponentLink1URL: http://ww1.microchip.com/downloads/en/DeviceDoc/22070a.pdf; ComponentLink2Description: Packaging Specification; ComponentLink2URL: http://www.microchip.com/stellent/groups/techpub_sg/documents/packagingspec/en012702.pdf; ComponentLink3Description: Microchip.com Home; ComponentLink3URL: http://www.microchip.com/
footprint SOT-223-DC5_N (SOT223, 6-Leads, Body 6.5x3.5mm, Pitch 1.27mm, Lead Span 7mm, IPC Medium Density)
footprint SOT-223-DC5_L (SOT223, 6-Leads, Body 6.5x3.5mm, Pitch 1.27mm, Lead Span 7mm, IPC High Density)
footprint SOT-223-DC5_M (SOT223, 6-Leads, Body 6.5x3.5mm, Pitch 1.27mm, Lead Span 7mm, IPC Low Density)
pins: 1 ~{SHDN} (in), 2 VIN (power), 3 GND (power), 4 VOUT (power), 5 PWRGD (power), 6 GND (power)

## MCP1824T-0802E/DC
designator U?
300 mA, Low Voltage, Low Quiescent Current LDO Regulator, 5-Pin SOT-223, Extended Temperature, Tape and Reel; Published: 29-Jan-2009; DatasheetVersion: revA, Aug-2007; PackageVersion: revBB, Aug-2009; PackageReference: SOT-223-DC5; Publisher: Altium Limited; PackageDescription: 5-Lead Plastic Small Outline Transistor (DC) [SOT-223]; Supplier 1: Digi-Key; Supplier Part Number 1: MCP1824T-0802E/DCTR-ND; Supplier 2: Digi-Key; Supplier Part Number 2: MCP1824T-0802E/DCCT-ND; Supplier 3: Digi-Key; Supplier Part Number 3: MCP1824T-0802E/DCDKR-ND; ComponentLink1Description: Datasheet; ComponentLink1URL: http://ww1.microchip.com/downloads/en/DeviceDoc/22070a.pdf; ComponentLink2Description: Packaging Specification; ComponentLink2URL: http://www.microchip.com/stellent/groups/techpub_sg/documents/packagingspec/en012702.pdf; ComponentLink3Description: Microchip.com Home; ComponentLink3URL: http://www.microchip.com/
footprint SOT-223-DC5_N (SOT223, 6-Leads, Body 6.5x3.5mm, Pitch 1.27mm, Lead Span 7mm, IPC Medium Density)
footprint SOT-223-DC5_L (SOT223, 6-Leads, Body 6.5x3.5mm, Pitch 1.27mm, Lead Span 7mm, IPC High Density)
footprint SOT-223-DC5_M (SOT223, 6-Leads, Body 6.5x3.5mm, Pitch 1.27mm, Lead Span 7mm, IPC Low Density)
pins: 1 ~{SHDN} (in), 2 VIN (power), 3 GND (power), 4 VOUT (power), 5 PWRGD (power), 6 GND (power)

## MCP1824T-0802E/OT
designator U?
300 mA, Low Voltage, Low Quiescent Current LDO Regulator, 5-Pin SOT-23, Extended Temperature, Tape and Reel; Published: 29-Jan-2009; DatasheetVersion: revA, Aug-2007; PackageVersion: revBB, Aug-2009; PackageReference: SOT-23-OT5; Publisher: Altium Limited; PackageDescription: 5-Lead Plastic Small Outline Transistor (OT) [SOT-23]; Supplier 1: Digi-Key; Supplier Part Number 1: MCP1824T-0802E/OTTR-ND; Supplier 2: Farnell; Supplier Part Number 2: 1675418; Code_IPC: SOT23-5; ComponentLink1Description: Datasheet; ComponentLink1URL: http://ww1.microchip.com/downloads/en/DeviceDoc/22070a.pdf; ComponentLink2Description: Packaging Specification; ComponentLink2URL: http://www.microchip.com/stellent/groups/techpub_sg/documents/packagingspec/en012702.pdf; ComponentLink3Description: Microchip.com Home; ComponentLink3URL: http://www.microchip.com/
footprint SOT-23-OT5_N (SOT23, 5-Leads, Body 2.9x1.6mm, Pitch 0.95mm, Lead Span 2.7mm, IPC Medium Density)
footprint SOT-23-OT5_L (SOT23, 5-Leads, Body 2.9x1.6mm, Pitch 0.95mm, Lead Span 2.7mm, IPC High Density)
footprint SOT-23-OT5_M (SOT23, 5-Leads, Body 2.9x1.6mm, Pitch 0.95mm, Lead Span 2.7mm, IPC Low Density)
pins: 1 VIN (power), 2 GND (power), 3 ~{SHDN} (in), 4 PWRGD (power), 5 VOUT (power)

## MCP1824T-1202E/DC
designator U?
300 mA, Low Voltage, Low Quiescent Current LDO Regulator, 5-Pin SOT-223, Extended Temperature, Tape and Reel; Published: 29-Jan-2009; DatasheetVersion: revA, Aug-2007; PackageVersion: revBB, Aug-2009; PackageReference: SOT-223-DC5; Publisher: Altium Limited; PackageDescription: 5-Lead Plastic Small Outline Transistor (DC) [SOT-223]; Supplier 1: Digi-Key; Supplier Part Number 1: MCP1824T-1202E/DCTR-ND; Supplier 2: Digi-Key; Supplier Part Number 2: MCP1824T-1202E/DCCT-ND; Supplier 3: Digi-Key; Supplier Part Number 3: MCP1824T-1202E/DCDKR-ND; Supplier 4: Farnell; Supplier Part Number 4: 1675419; ComponentLink1Description: Datasheet; ComponentLink1URL: http://ww1.microchip.com/downloads/en/DeviceDoc/22070a.pdf; ComponentLink2Description: Packaging Specification; ComponentLink2URL: http://www.microchip.com/stellent/groups/techpub_sg/documents/packagingspec/en012702.pdf; ComponentLink3Description: Microchip.com Home; ComponentLink3URL: http://www.microchip.com/
footprint SOT-223-DC5_N (SOT223, 6-Leads, Body 6.5x3.5mm, Pitch 1.27mm, Lead Span 7mm, IPC Medium Density)
footprint SOT-223-DC5_L (SOT223, 6-Leads, Body 6.5x3.5mm, Pitch 1.27mm, Lead Span 7mm, IPC High Density)
footprint SOT-223-DC5_M (SOT223, 6-Leads, Body 6.5x3.5mm, Pitch 1.27mm, Lead Span 7mm, IPC Low Density)
pins: 1 ~{SHDN} (in), 2 VIN (power), 3 GND (power), 4 VOUT (power), 5 PWRGD (power), 6 GND (power)